# Altium integrated library TinyPICO_Nano.Library.IntLib: 1 symbol
Pins are listed as number, name and electrical type; pins without a type are passive.

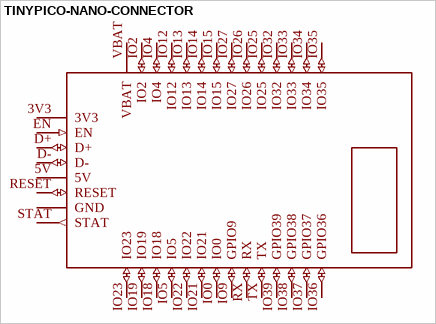
[diagram p0: symbol TINYPICO-NANO-CONNECTOR]

## TINYPICO-NANO-CONNECTOR
designator ?, comment TinyPICO NANO Footprint https://www.tinypico.com/tinypico-nano  (value not drawn)
GateName_1: G$1; SymbolName_1: TINYPICO-NANO-CONNECTOR; LibraryName: TinyPICO_Nano; DeviceSetName: TINYPICO-NANO-CONNECTOR; Package: TINYPICO-NANO-CONNECTOR
footprint TINYPICO-NANO-CONNECTOR
pins: 3V3 (power), 5V (power), D+ (io), D- (io), EN (in), GND (power), IO0 (io), IO2 (io), IO4 (io), IO5 (io), IO9 GPIO9 (io), IO12 (io), IO13 (io), IO14 (io), IO15 (io), IO18 (io), IO19 (io), IO21 (io), IO22 (io), IO23 (io), IO25 (io), IO26 (io), IO27 (io), IO32 (io), IO33 (io), IO34 (io), IO35 (io), IO36 GPIO36 (io), IO37 GPIO37 (io), IO38 GPIO38 (io), IO39 GPIO39 (io), RESET (io), RX (io), STAT (out), TX (io), VBAT (power)